# EAGLE library part 29 (library display-lcd-lxd)
2 Numerical Digit, .50" (12.70) Direct Drive Display Additional Descriptors: none
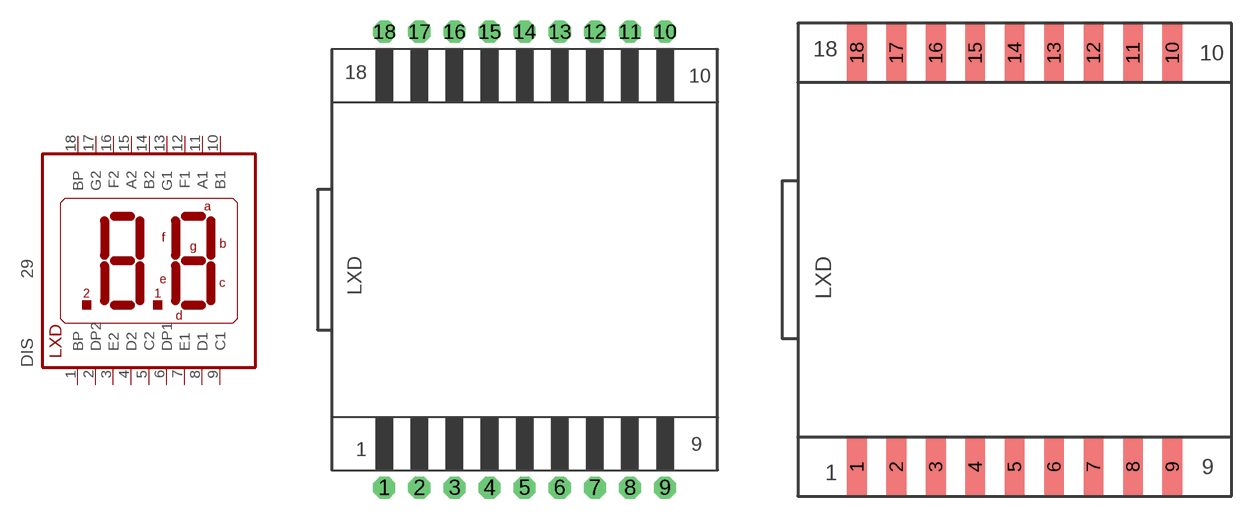
[diagram p5: symbol with the pads of 29-D; footprints 29-D, 29-E]

Designator prefix DIS

## 29DIP  [29-D]
1  BP  pas
2  DP2  pas
3  E2  pas
4  D2  pas
5  C2  pas
6  DP1  pas
7  E1  pas
8  D1  pas
9  C1  pas
10  B1  pas
11  A1  pas
12  F1  pas
13  G1  pas
14  B2  pas
15  A2  pas
16  F2  pas
17  G2  pas
18  BP  pas

## 29SMD  [29-E]
Pads as for 29-D

## Footprint 29-D (pad centres in mm)
Glass Size: 1.10" x 1.20" &nbsp &nbsp &nbsp &nbsp &nbsp &nbsp &nbsp &nbsp &nbsp (27.94 x 30.48)
drill 0.813 pad 1.6 octagon: 1 -10.16,-16.51; 2 -7.62,-16.51; 3 -5.08,-16.51; 4 -2.54,-16.51; 5 0,-16.51; 6 2.54,-16.51; 7 5.08,-16.51; 8 7.62,-16.51; 9 10.16,-16.51; 10 10.16,16.51; 11 7.62,16.51; 12 5.08,16.51; 13 2.54,16.51; 14 0,16.51; 15 -2.54,16.51; 16 -5.08,16.51; 17 -7.62,16.51; 18 -10.16,16.51

## Footprint 29-E (pad centres in mm)
Glass Size: 1.10" x 1.20" &nbsp &nbsp &nbsp &nbsp &nbsp &nbsp &nbsp &nbsp &nbsp (27.94 x 30.48)
smd 1.27 x 3.81: 1 -10.16,-13.335; 2 -7.62,-13.335; 3 -5.08,-13.335; 4 -2.54,-13.335; 5 0,-13.335; 6 2.54,-13.335; 7 5.08,-13.335; 8 7.62,-13.335; 9 10.16,-13.335; 10 10.16,13.335; 11 7.62,13.335; 12 5.08,13.335; 13 2.54,13.335; 14 0,13.335; 15 -2.54,13.335; 16 -5.08,13.335; 17 -7.62,13.335; 18 -10.16,13.335